# EAGLE library part 2-826942-0 (library 2-826942-0)
Body Features: Primary Product Color Green | Configuration Features: Number of Positions 40 | Board-to-Board Configuration Parallel | PCB Mount Orientation Vertical | Number of Rows 2 | Connector Contact Load Condition Fully Loaded | Contact Features: Contact Shape & Form Square | Contact Mating Area Plating Material Tin | Contact Current Rating (Max) 5 AMP | Mating Square Post Dimension .025 INCH | Contact Mating Area Plating Material Thickness 3 MICM | Contact Base Material Phosphor Bronze | PCB Contact T Source: Datasheet <https://datasheet.datasheetarchive.com/originals/distributors/Datasheets-DGA21/2082916.pdf>
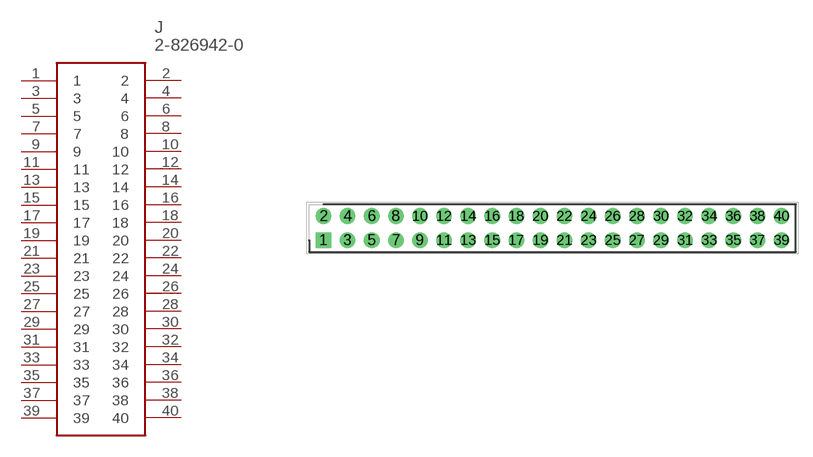
[diagram p0: symbol with the pads of HDRV40W63P254_2X20_5080X500X86; footprint HDRV40W63P254_2X20_5080X500X86]

Designator prefix J

## 2-826942-0 (Arrow_Part_Number: 2-826942-0; Arrow_Price-Stock: https://www.arrow.com/en/products/2-826942-0/te-connectivity?utm_currency=USD&region=nac; Description: Body Features: Primary Product Color Green | Configuration Features: Number of Positions 40 | Board-to-Board Configuration Parallel | PCB Mount Orientation Vertical | Number of Rows 2 | Connector Contact Load Condition Fully Loaded | Contact Features: Contact Shape & Form Square | Contact Mating Area Plating Material Tin | Contact Current Rating (Max) 5 AMP | Mating Square Post Dimension .025 INCH | Contact Mating Area Plating Material Thickness 3 MICM | Contact Base Material Phosphor Bronze | PCB Contact T; Height: 8.6mm; Manufacturer_Name: TE Connectivity; Manufacturer_Part_Number: 2-826942-0; Mouser_Part_Number: 571-2-826942-0; Mouser_Price-Stock: https://www.mouser.co.uk/ProductDetail/TE-Connectivity/2-826942-0?qs=xF5SkmKSM77XAsaLR3kF3A%3D%3D)  [HDRV40W63P254_2X20_5080X500X86]
1  1
2  2
3  3
4  4
5  5
6  6
7  7
8  8
9  9
10  10
11  11
12  12
13  13
14  14
15  15
16  16
17  17
18  18
19  19
20  20
21  21
22  22
23  23
24  24
25  25
26  26
27  27
28  28
29  29
30  30
31  31
32  32
33  33
34  34
35  35
36  36
37  37
38  38
39  39
40  40

## Footprint HDRV40W63P254_2X20_5080X500X86 (pad centres in mm)
2-826942-0-1
drill 1.1 pad 1.65 square: 1 0,0
drill 1.1 pad 1.65: 2 0,2.54; 3 2.54,0; 4 2.54,2.54; 5 5.08,0; 6 5.08,2.54; 7 7.62,0; 8 7.62,2.54; 9 10.16,0; 10 10.16,2.54; 11 12.7,0; 12 12.7,2.54; 13 15.24,0; 14 15.24,2.54; 15 17.78,0; 16 17.78,2.54; 17 20.32,0; 18 20.32,2.54; 19 22.86,0; 20 22.86,2.54; 21 25.4,0; 22 25.4,2.54; 23 27.94,0; 24 27.94,2.54; 25 30.48,0; 26 30.48,2.54; 27 33.02,0; 28 33.02,2.54; 29 35.56,0; 30 35.56,2.54; 31 38.1,0; 32 38.1,2.54; 33 40.64,0; 34 40.64,2.54; 35 43.18,0; 36 43.18,2.54; 37 45.72,0; 38 45.72,2.54; 39 48.26,0; 40 48.26,2.54